# Altium footprint library A_Passive.PcbLib: 83 footprints (part 1 of 6)
Each footprint in its own frame and in the unit in brackets; x right, y up, seen from the top. Pads: shape width x height; smd on the part's side, far side on the other; paste and mask are expansions set on the pad; w line width, h text height; cw(c..) or ccw(c..) is an arc to the next point about the centre after c.
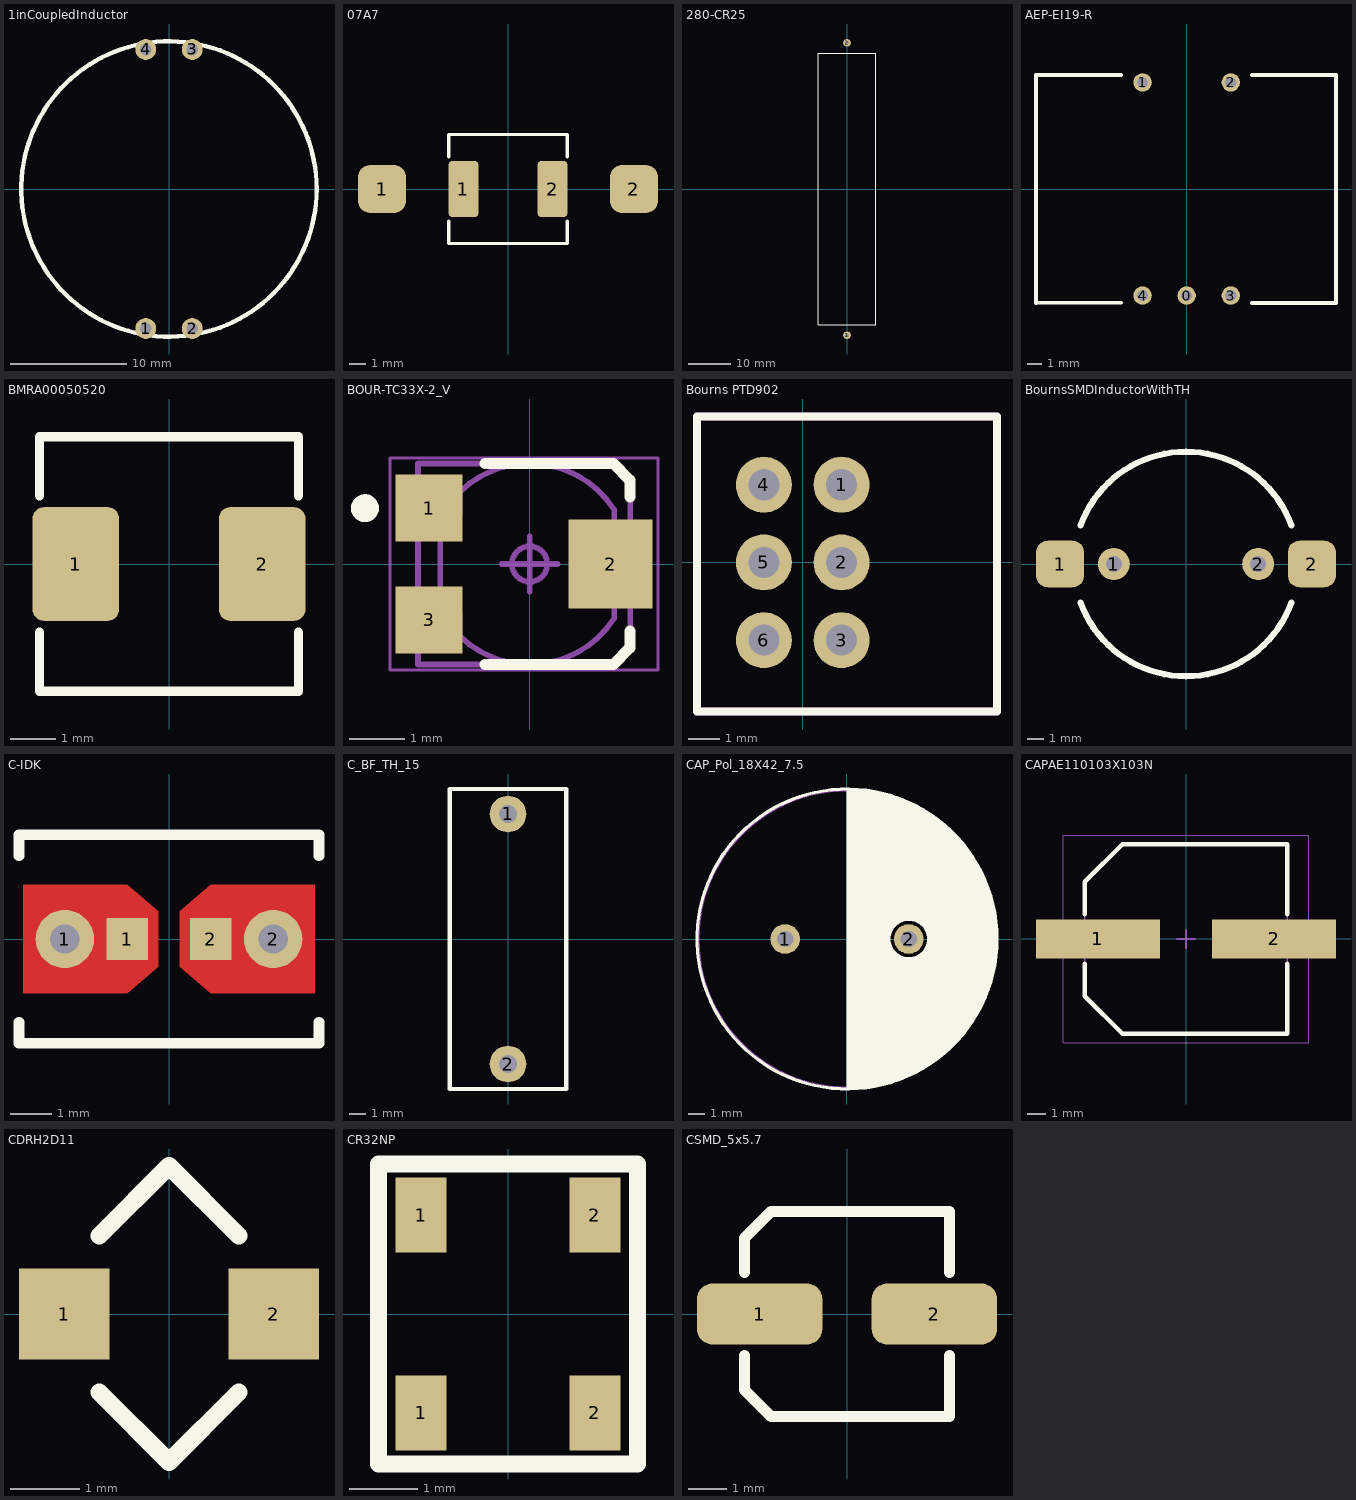
[diagram p0: the footprints below, top view; thin cyan lines are the x and y axes]

## 1inCoupledInductor [mm]
pads (4):
  round 1.8 hole 1: 1(-2,-12) 2(2,-12) 3(2,12) 4(-2,12)
Top Overlay:
  circle w0.381: c0,0 r12.7
3D body: height 10, standoff 0, extent -12.7,-12.697 12.7,12.697

## 07A7 [mm]
pads (4):
  rrect50% 3x3 smd: 1(-7.85,0) 2(7.85,0)
  rrect25% 1.85x3.5 smd: 1(-2.775,0) 2(2.775,0)
Top Overlay:
  lines w0.203: -3.7,-2 -3.7,-3.4 3.7,-3.4 3.7,-2 ; -3.7,2 -3.7,3.4 3.7,3.4 3.7,2
3D body: height 3, standoff 0, extent -3.5,-3.25 3.5,3.25

## 280-CR25 [mm]
pads (2):
  round 1.8 hole 0.9: 1(0,-34.5) 2(0,34.5)
Top Overlay:
  lines w0.254: -6.75,-32 6.75,-32 6.75,32 -6.75,32 -6.75,-32
3D body: height 15, standoff 0.5, extent -6.75,-32 6.75,32

## AEP-EI19-R [mm]
pads (5):
  round 1.25 hole 0.75: 0(0,-7.25) 1(-3,7.25) 2(3,7.25) 3(3,-7.25) 4(-3,-7.25)
Top Overlay:
  lines w0.254: -10.25,-7.75 -10.25,7.75 -4.445,7.75 ; -10.25,-7.747 -4.445,-7.747 ; 4.445,-7.75 10.16,-7.75 10.16,7.75 4.445,7.75

## BMRA00050520 [mm]
pads (2):
  rrect25% 1.9x2.5 smd: 1(-2.05,0) 2(2.05,0)
Top Overlay:
  lines w0.203: -2.85,-1.5 -2.85,-2.8 2.85,-2.8 2.85,-1.5 ; -2.85,1.5 -2.85,2.8 2.85,2.8 2.85,1.5
3D body: height 2, standoff 0, extent -2.7,-2.7 2.7,2.7

## BOUR-TC33X-2_V [mm] "SMD, 3-Leads, Body 3.8x3.6mm"
height 1.2
pads (3):
  rect 1.2x1.2 smd: 1(-1.8,1) 3(-1.8,-1)
  rect 1.5x1.6 smd: 2(1.45,0)
Top Overlay:
  circle w0.25: c-2.95,1 r0.125
  lines w0.2: -0.8,-1.8 1.5,-1.8 1.8,-1.5 1.8,-1.2 ; -0.8,1.8 1.5,1.8 1.8,1.5 1.8,1.2
Mechanical 13:
  lines w0.1: 1.515,-0.73 1.95,-0.73 1.95,-0.425 1.8,-0.425 ; 1.515,0.73 1.95,0.73 1.95,0.425 1.8,0.425 ; 1.8,-0.75 1.8,-1.5 1.5,-1.8 -2,-1.8 -2,1.8 1.5,1.8 1.8,1.5 1.8,0.75 ; 1.8,-0.42 1.8,0.42 ; -1.6,-0.895 -1.25,-0.895 -1.25,-1.295 ccw(c0,0) 1.515,-0.972 1.515,-0.352 ccw(c1.16,0) 1.515,0.352 1.515,0.972 ccw(c0,0) -1.25,1.295 -1.25,0.895 -1.6,0.895 -1.6,-0.895 ; 0,-0.318 cw(c0,0) 0,0.317 cw(c0,0) 0,-0.318
Mechanical 15:
  lines w0.05: -2.5,-1.9 2.3,-1.9 2.3,1.9 -2.5,1.9 -2.5,-1.9
  lines w0.1: -0.5,0 0.5,0 ; 0,-0.5 0,0.5
3D body "BOUR-TC33X-2.stp": height 1.15, standoff 0, extent -2,-1.8 1.963,1.8

## Bourns PTD902 [mm]
pads (6):
  round 1.8 hole 1: 1(1.25,2.5) 2(1.25,0) 3(1.25,-2.5) 4(-1.25,2.5) 5(-1.25,0) 6(-1.25,-2.5)
Top Overlay:
  lines w0.254: -3.4,-4.8 6.25,-4.8 6.25,4.7 -3.4,4.7 -3.4,-4.8
Mechanical 13:
  lines w0.254: -3.4,-4.8 -3.4,4.7 6.25,4.7 6.25,-4.8 -3.4,-4.8
3D body "User Library-Bournes Potentiometer PTD90 Series-1.step": height 11.3, standoff -3.5, extent -3.402,-4.75 21.25,4.75

## BournsSMDInductorWithTH [mm]
pads (4):
  rrect50% 3x2.9 smd: 1(-7.85,0) 2(7.85,0)
  round 2 hole 1: 1(-4.5,0) 2(4.5,0)
Top Overlay:
  lines w0.381: -6.578,-2.394 ccw(c0,0) 6.578,-2.394 ; -6.578,2.394 cw(c0,0) 6.578,2.394

## C-IDK [mm] "5mm box - 0805 ceramic"
pads (4):
  round 1.4 hole 0.7: 1(-2.5,0) 2(2.5,0)
  rect 1x1 smd: 1(-1,0) 2(1,0)
Top Layer:
  region: 0.254,-0.66 1,-1.3 3.5,-1.3 3.5,1.3 1,1.3 0.254,0.66
  region: -0.254,0.66 -1,1.3 -3.5,1.3 -3.5,-1.3 -1,-1.3 -0.254,-0.66
Top Overlay:
  lines w0.254: -3.6,-2 -3.6,-2.5 3.6,-2.5 3.6,-2 ; -3.6,2 -3.6,2.5 3.6,2.5 3.6,2

## C_BF_TH_15 [mm]
pads (2):
  round 2.2 hole 1.1 unplated: 1(0,7.5) 2(0,-7.5)
Top Overlay:
  lines w0.254: -3.5,-9 3.5,-9 3.5,9 -3.5,9 -3.5,-9
3D body: height 12.5, standoff 0, extent -3.5,-9 3.5,9

## Cap Panasonic F12 [mm]

## CAP_Pol_18X42_7.5 [mm] "Aluminum Electrolytic Capacitor, Diameter 18mm, Height 20mm, Pitch 7.5mm"
height 16
pads (2):
  round 1.8 hole 1: 1(-3.75,0) 2(3.75,0)
Top Overlay:
  circle w0.2: c0,0 r9.102
  region: 3.699,-1.122 3.85,-1.119 4.144,-1.052 4.41,-0.909 4.628,-0.701 4.783,-0.442 4.863,-0.151 4.863,0.151 4.783,0.442 4.628,0.701 4.41,0.909 4.144,1.052 3.85,1.119 3.699,1.122 3.7,1.122 3.7,8.31 3.702,8.315 4.102,8.137 4.863,7.707 5.58,7.206 6.245,6.638 6.853,6.009 7.397,5.325 7.874,4.592 8.278,3.816 8.605,3.005 8.854,2.167 9.021,1.309 9.105,0.438 9.105,-0.436 9.021,-1.307 8.854,-2.165 8.606,-3.004 8.278,-3.814 7.875,-4.59 7.398,-5.323 6.854,-6.008 6.246,-6.637 5.581,-7.205 4.865,-7.706 4.104,-8.136 3.704,-8.314 3.7,-8.305
  region: 0,-9.1 0.477,-9.1 1.427,-9.001 2.36,-8.803 3.268,-8.508 3.704,-8.314 3.7,-8.305 3.7,-1.122 3.699,-1.122 3.557,-1.107 3.285,-1.023 3.043,-0.873 2.846,-0.667 2.707,-0.418 2.635,-0.142 2.635,0.142 2.707,0.418 2.846,0.667 3.043,0.873 3.285,1.023 3.557,1.107 3.699,1.122 3.7,1.122 3.7,8.31 3.702,8.315 3.267,8.509 2.359,8.803 1.426,9.001 0.477,9.1 0,9.1
Mechanical 13:
  circle w0.1: c0,0 r9
3D body: height 42, standoff 0.1, extent -9,-9 9,9

## CAPAE110103X103N [mm] "Aluminum Electrolytic Capacitor, Body 11.00x10.30x10.30mm, IPC Medium Density"
height 10.3
pads (2):
  rect 6.85x2.15 smd: 1(-4.875,0) 2(4.875,0)
Top Overlay:
  lines w0.254: -5.6,-1.375 -5.6,-3.163 -3.512,-5.25 5.6,-5.25 5.6,-1.375 ; -5.6,1.375 -5.6,3.162 -3.512,5.25 5.6,5.25 5.6,1.375
Mechanical 13:
  lines w0.1: -5.6,-3.163 -3.512,-5.25 5.6,-5.25 5.6,5.25 -3.512,5.25 -5.6,3.162 -5.6,-3.163
Mechanical 15:
  lines w0.05: -6.8,-5.75 -6.8,5.75 6.8,5.75 6.8,-5.75 -6.8,-5.75
  lines w0.1: -0.5,0 0.5,0 ; 0,-0.5 0,0.5
3D body "CAPAE110103X103N.step": height 10.3, standoff 0, extent -5.6,-5.25 5.6,5.25

## CDRH2D11 [mm]
pads (2):
  rect 1.3x1.3 smd: 1(-1.5,0) 2(1.5,0)
Top Overlay:
  lines w0.254: -1,-1.121 0,-2.121 1,-1.121 ; -1,1.121 0,2.121 1,1.121

## CR32NP [mm]
pads (4):
  rect 0.75x1.1 smd: 1(-1.275,-1.45) 1(-1.275,1.45) 2(1.275,-1.45) 2(1.275,1.45)
Top Overlay:
  lines w0.254: -1.9,-2.2 1.9,-2.2 1.9,2.2 -1.9,2.2 -1.9,-2.2

## CSMD_5x5.7 [mm]
pads (2):
  rrect50% 3.3x1.6 smd mask+0.05: 1(-2.3,0) 2(2.3,0)
Top Overlay:
  lines w0.3: -2.7,-1.1 -2.7,-2 -2,-2.7 2.7,-2.7 2.7,-1.1 ; -2.7,1.1 -2.7,2 -2,2.7 2.7,2.7 2.7,1.1
3D body: height 0.25, standoff -19.93, extent -0.1,0 -0.1,0
3D body: height 5.4, standoff 0, extent -2.5,-2.497 2.5,2.497